# Altium footprint library a_Valider_LDG.PcbLib: 9 footprints
Each footprint in its own frame and in the unit in brackets; x right, y up, seen from the top. Pads: shape width x height; smd on the part's side, far side on the other; paste and mask are expansions set on the pad; w line width, h text height; cw(c..) or ccw(c..) is an arc to the next point about the centre after c.
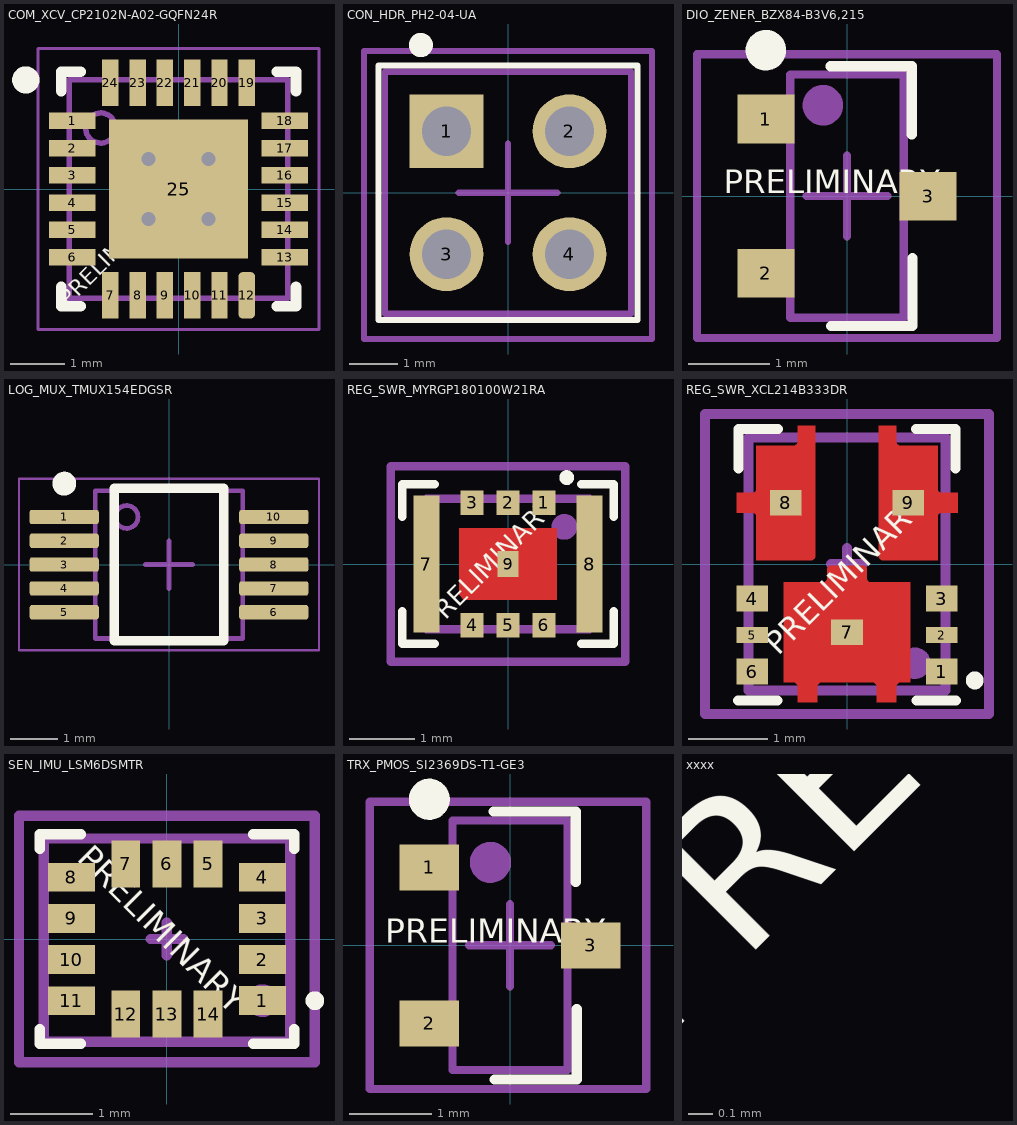
[diagram p0: the footprints below, top view; thin cyan lines are the x and y axes]

## COM_XCV_CP2102N-A02-GQFN24R [mm] "QFN, 24-Leads, Body 4.00x4.00mm, Pitch 0.50mm, Thermal Pad 2.55x2.55mm, IPC Medium Density"
height 0.8
pads (25):
  rect 0.85x0.3 smd paste-0.025 mask+0.07: 1(-1.95,1.25) 2(-1.95,0.75) 3(-1.95,0.25) 4(-1.95,-0.25) 5(-1.95,-0.75) 6(-1.95,-1.25) 13(1.95,-1.25) 14(1.95,-0.75) 15(1.95,-0.25) 16(1.95,0.25) 17(1.95,0.75) 18(1.95,1.25)
  rect 0.3x0.85 smd paste-0.025 mask+0.07: 7(-1.25,-1.95) 8(-0.75,-1.95) 9(-0.25,-1.95) 10(0.25,-1.95) 11(0.75,-1.95) 19(1.25,1.95) 20(0.75,1.95) 21(0.25,1.95) 22(-0.25,1.95) 23(-0.75,1.95) 24(-1.25,1.95)
  rrect50% 0.3x0.85 smd paste-0.025 mask+0.07: 12(1.25,-1.95)
  rect 2.55x2.55 smd paste-0.025 mask+0.07: 25(0,0)
via 0.55,-0.55 diameter 0.508 hole 0.254
via -0.55,-0.55 diameter 0.508 hole 0.254
via 0.55,0.55 diameter 0.508 hole 0.254
via -0.55,0.55 diameter 0.508 hole 0.254
Top Overlay:
  circle w0.25: c-2.8,2 r0.125
  lines w0.2: -2.15,-1.8 -2.15,-2.15 -1.8,-2.15 ; -2.15,1.8 -2.15,2.15 -1.8,2.15 ; 1.8,-2.15 2.15,-2.15 2.15,-1.8 ; 1.8,2.15 2.15,2.15 2.15,1.8
  text "PRELIMINARY & WIP" at -1.95,-2.238 h0.5
Top Assembly Drawing:
  circle w0.1: c-1.427,1.118 r0.276
  lines w0.1: -2,-2 -2,2 2,2 2,-2 -2,-2
Top Courtyard:
  lines w0.05: -2.575,-2.575 2.575,-2.575 2.575,2.575 -2.575,2.575 -2.575,-2.575
  lines w0.1: -0.5,0 0.5,0 ; 0,-0.5 0,0.5
3D body: height 0.8, standoff 0, extent -2,-2 2,2

## CON_HDR_PH2-04-UA [mil]
pads (4):
  rect 60x60 hole 40: 1(-50,50)
  round 60 hole 40: 2(50,50) 3(-50,-50) 4(50,-50)
Top Overlay:
  circle w9.84: c-70.87,120.08 r4.92
  lines w5: -105.31,-103.35 -105.31,103.35 105.31,103.35 105.31,-103.35 -105.31,-103.35
Top Assembly Drawing:
  lines w5: -100,-98.43 100,-98.43 100,98.43 -100,98.43 -100,-98.43
Top Courtyard:
  lines w5: -40,0 40,0 ; 0,-40 0,40 ; -117.13,-118.92 117.13,-118.92 117.13,115.16 -117.13,115.16 -117.13,-118.92
3D body "PH2-04-UA.STEP": height 285.43, standoff -169.29, extent -100,-98.42 100,98.43

## DIO_ZENER_BZX84-B3V6,215 [mm]
height 1.1
pads (3):
  rect 0.7x0.6 smd paste-0.025 mask+0.07: 1(-1,0.95) 2(-1,-0.95) 3(1,0)
Top Overlay:
  circle w0.25: c-1,1.8 r0.125
  lines w0.127: -0.2,1.6 0.8,1.6 0.8,0.764 ; -0.193,-1.602 0.807,-1.602 0.807,-0.765
  text "PRELIMINARY" at -1.521,-0.064 h0.5
Top Assembly Drawing:
  circle w0.25: c-0.297,1.12 r0.125
  lines w0.1: -0.7,-1.5 -0.7,1.5 0.7,1.5 0.7,-1.5 -0.7,-1.5
Top Courtyard:
  lines w0.1: -0.5,0 0.5,0 ; 0,-0.5 0,0.5 ; -1.85,-1.75 -1.85,1.75 1.85,1.75 1.85,-1.75 -1.85,-1.75
3D body "SOT95P230X110-3N.step": height 1.1, standoff 0, extent -1.3,-1.5 1.3,1.5

## LOG_MUX_TMUX154EDGSR [mm] "TSSOP, 10-Leads, Body 3.00x3.00mm, Pitch 0.50mm, IPC Medium Density"
height 1.1
pads (10):
  rrect30% 1.45x0.3 smd paste-0.025 mask+0.05: 1(-2.2,1) 2(-2.2,0.5) 3(-2.2,0) 4(-2.2,-0.5) 5(-2.2,-1) 6(2.2,-1) 7(2.2,-0.5) 8(2.2,0) 9(2.2,0.5) 10(2.2,1)
Top Overlay:
  circle w0.25: c-2.2,1.7 r0.125
  lines w0.2: -1.15,-1.6 1.15,-1.6 1.15,1.6 -1.15,1.6 -1.15,-1.6
Bottom Assembly Drawing:
  circle w0.1: c-0.89,1 r0.24
  lines w0.1: -1.55,-1.55 -1.55,1.55 1.55,1.55 1.55,-1.55 -1.55,-1.55
Top Courtyard:
  lines w0.05: -3.15,-1.8 3.15,-1.8 3.15,1.8 -3.15,1.8 -3.15,-1.8
  lines w0.1: -0.5,0 0.5,0 ; 0,-0.5 0,0.5
3D body "TSSOP50P490X110-10N.step": height 1.1, standoff 0, extent -2.45,-1.55 2.45,1.55

## REG_SWR_MYRGP180100W21RA [mm]
pads (9):
  rect 0.35x0.375 smd paste-1 mask+0.05: 1(0.55,0.937) 2(0,0.937) 3(-0.55,0.937) 4(-0.55,-0.937) 5(0,-0.937) 6(0.55,-0.937)
  rect 0.4x2.1 smd paste-1 mask+0.05: 7(-1.25,0) 8(1.25,0)
  rect 0.325x0.4 smd paste-1 mask-1: 9(0,0)
Top Layer:
  region: 0.75,0.55 -0.75,0.55 -0.75,-0.475 -0.675,-0.55 0.75,-0.55
Top Overlay:
  circle w0.127: c0.9,1.325 r0.05
  lines w0.127: -1.624,-0.723 -1.624,-1.223 -1.124,-1.223 ; -1.624,0.723 -1.624,1.223 -1.124,1.223 ; 1.124,-1.223 1.624,-1.223 1.624,-0.723 ; 1.124,1.223 1.624,1.223 1.624,0.723
  text "PRELIMINARY" at -1.054,-1.11 h0.5
Top Paste:
  region: -0.65,-0.45 -0.25,-0.45 -0.25,0.45 -0.65,0.45
  region: 0.65,0.45 0.25,0.45 0.25,-0.45 0.65,-0.45
  region: 0.4,-0.8 0.7,-0.8 0.7,-1.1 0.4,-1.1
  region: 0.15,-0.8 -0.15,-0.8 -0.15,-1.1 0.15,-1.1
  region: -0.4,-0.8 -0.7,-0.8 -0.7,-1.1 -0.4,-1.1
  region: -0.4,0.8 -0.7,0.8 -0.7,1.1 -0.4,1.1
  region: -0.15,0.8 0.15,0.8 0.15,1.1 -0.15,1.1
  region: 0.4,0.8 0.7,0.8 0.7,1.1 0.4,1.1
  region: -1.425,-1.025 -1.1,-1.025 -1.1,1.025 -1.425,1.025
  region: 1.425,1.025 1.1,1.025 1.1,-1.025 1.425,-1.025
Top Assembly Drawing:
  circle w0.254: c0.865,0.57 r0.071
  lines w0.127: -1.25,-1 1.25,-1 1.25,1 -1.25,1 -1.25,-1
Top Courtyard:
  lines w0.127: -0.2,0 0.2,0 ; 0,-0.2 0,0.2 ; -1.8,-1.5 -1.8,1.5 1.8,1.5 1.8,-1.5 -1.8,-1.5
3D body: height 1, standoff 0, extent -1.25,-1 1.25,1

## REG_SWR_XCL214B333DR [mm]
pads (9):
  rect 0.4x0.325 smd paste-0.05 mask+0.05: 1(1.2,-1.363) 3(1.2,-0.438) 4(-1.2,-0.438) 6(-1.2,-1.363)
  rect 0.4x0.2 smd paste-0.05 mask+0.05: 2(1.2,-0.9) 5(-1.2,-0.9)
  rect 0.4x0.325 smd paste-1 mask-1: 7(0,-0.865) 8(-0.775,0.775) 9(0.775,0.775)
Top Layer:
  region: 0.25,-0.07 0.25,-0.06 0.242,-0.042 0.228,-0.028 0.21,-0.02 0.2,-0.02 -0.2,-0.02 -0.21,-0.02 -0.228,-0.028 -0.242,-0.042 -0.25,-0.06 -0.25,-0.07 -0.25,-0.18 -0.251,-0.19 -0.258,-0.208 -0.272,-0.221 -0.29,-0.229 -0.3,-0.23 -0.8,-0.23 -0.8,-1.5 -0.675,-1.5 -0.665,-1.501 -0.647,-1.508 -0.633,-1.522 -0.626,-1.54 -0.625,-1.55 -0.625,-1.75 -0.375,-1.75 -0.375,-1.55 -0.374,-1.54 -0.366,-1.522 -0.353,-1.508 -0.335,-1.501 -0.325,-1.5 0.325,-1.5 0.335,-1.501 0.353,-1.508 0.367,-1.522 0.374,-1.54 0.375,-1.55 0.375,-1.75 0.625,-1.75 0.625,-1.55 0.626,-1.54 0.633,-1.522 0.647,-1.508 0.665,-1.501 0.675,-1.5 0.8,-1.5 0.8,-0.23 0.3,-0.23 0.29,-0.229 0.272,-0.221 0.259,-0.208 0.251,-0.19 0.25,-0.18
  region: -1.15,0.05 -0.45,0.05 -0.44,0.05 -0.421,0.057 -0.407,0.072 -0.4,0.09 -0.4,0.1 -0.4,1.75 -0.625,1.75 -0.625,1.55 -0.626,1.54 -0.633,1.522 -0.647,1.508 -0.665,1.501 -0.675,1.5 -1.15,1.5 -1.15,0.95 -1.151,0.94 -1.158,0.922 -1.172,0.908 -1.19,0.901 -1.2,0.9 -1.4,0.9 -1.4,0.65 -1.2,0.65 -1.19,0.649 -1.172,0.641 -1.158,0.628 -1.151,0.61 -1.15,0.6
  region: 1.15,0.05 0.45,0.05 0.44,0.05 0.421,0.057 0.407,0.072 0.4,0.09 0.4,0.1 0.4,1.75 0.625,1.75 0.625,1.55 0.626,1.54 0.633,1.522 0.647,1.508 0.665,1.501 0.675,1.5 1.15,1.5 1.15,0.95 1.151,0.94 1.158,0.922 1.172,0.908 1.19,0.901 1.2,0.9 1.4,0.9 1.4,0.65 1.2,0.65 1.19,0.649 1.172,0.641 1.158,0.628 1.151,0.61 1.15,0.6
Top Overlay:
  circle w0.127: c1.618,-1.475 r0.05
  lines w0.127: -1.378,-1.727 -0.878,-1.727 ; 0.872,1.712 1.372,1.712 1.372,1.212 ; 0.879,-1.727 1.379,-1.727 ; -1.372,1.712 -1.372,1.212 -1.372,1.712 ; -1.372,1.712 -0.872,1.712 -1.372,1.712
  text "PRELIMINARY" at -0.8,-1.239 h0.5
Top Paste:
  region: 1.35,-0.8 1.05,-0.8 1.05,-1 1.35,-1
  rectangle: -1.35,-1 -1.05,-0.8
  region: 0.474,0.675 0.464,0.675 0.446,0.683 0.432,0.697 0.424,0.715 0.424,0.725 0.424,1.7 0.6,1.7 0.6,1.45 0.601,1.441 0.608,1.423 0.622,1.409 0.639,1.401 0.649,1.4 0.65,1.4 1.05,1.4 1.05,0.925 1.051,0.916 1.058,0.898 1.072,0.884 1.089,0.876 1.099,0.875 1.1,0.875 1.35,0.875 1.35,0.675
  region: -0.475,0.675 -0.465,0.675 -0.446,0.683 -0.432,0.697 -0.425,0.715 -0.425,0.725 -0.425,1.7 -0.6,1.7 -0.6,1.45 -0.601,1.441 -0.608,1.423 -0.622,1.409 -0.64,1.401 -0.649,1.4 -0.65,1.4 -1.05,1.4 -1.05,0.925 -1.051,0.916 -1.058,0.898 -1.072,0.884 -1.09,0.876 -1.099,0.875 -1.1,0.875 -1.35,0.875 -1.35,0.675
  region: 0.7,-0.8 -0.7,-0.8 -0.7,-1.4 -0.65,-1.4 -0.641,-1.401 -0.622,-1.409 -0.609,-1.422 -0.601,-1.441 -0.6,-1.45 -0.6,-1.7 -0.4,-1.7 -0.4,-1.45 -0.399,-1.441 -0.392,-1.422 -0.378,-1.409 -0.36,-1.401 -0.35,-1.4 0.35,-1.4 0.359,-1.401 0.377,-1.409 0.391,-1.422 0.399,-1.441 0.4,-1.45 0.4,-1.7 0.6,-1.7 0.6,-1.45 0.601,-1.441 0.608,-1.422 0.622,-1.409 0.64,-1.401 0.65,-1.4 0.7,-1.4
Top Assembly Drawing:
  circle w0.254: c0.861,-1.257 r0.071
  lines w0.127: -1.25,-1.6 1.25,-1.6 1.25,1.6 -1.25,1.6 -1.25,-1.6
Top Courtyard:
  lines w0.127: -0.2,0 0.2,0 ; 0,-0.2 0,0.2 ; -1.8,-1.9 -1.8,1.9 1.8,1.9 1.8,-1.9 -1.8,-1.9
3D body: height 1, standoff 0, extent -1.25,-1.6 1.25,1.6

## SEN_IMU_LSM6DSMTR [mm]
pads (14):
  rect 0.575x0.35 smd paste-1 mask+0.05: 1(1.162,-0.75) 2(1.162,-0.25) 3(1.162,0.25) 8(-1.163,0.75) 9(-1.163,0.25) 10(-1.163,-0.25)
  rect 0.575x0.35 smd mask+0.05: 4(1.162,0.75) 11(-1.163,-0.75)
  rect 0.35x0.575 smd paste-1 mask+0.05: 5(0.5,0.913) 6(0,0.913) 7(-0.5,0.913) 12(-0.5,-0.913) 13(0,-0.913) 14(0.5,-0.913)
Top Overlay:
  circle w0.127: c1.8,-0.75 r0.05
  lines w0.127: -1.55,-1.1 -1.55,-1.275 -1.05,-1.275 ; -1.55,1.1 -1.55,1.275 -1.05,1.275 ; 1.05,-1.275 1.55,-1.275 1.55,-1.1 ; 1.05,1.275 1.55,1.275 1.55,1.1
  text "PRELIMINARY" at -1.175,0.9 h0.5
Top Assembly Drawing:
  circle w0.254: c1.162,-0.75 r0.071
  lines w0.127: -1.5,-1.25 1.5,-1.25 1.5,1.223 -1.5,1.223 -1.5,-1.25
Top Courtyard:
  lines w0.127: -0.2,0 0.2,0 ; 0,-0.2 0,0.2 ; -1.8,-1.5 1.8,-1.5 1.8,1.5 -1.8,1.5 -1.8,-1.5
3D body "LSM6DSMTR--3DModel-STEP-56544.STEP": height 0.86, standoff 0, extent -1.5,-1.25 1.5,1.25

## TRX_PMOS_SI2369DS-T1-GE3 [mm]
height 1.12
pads (3):
  rect 0.724x0.559 smd paste-0.025 mask+0.07: 1(-0.984,0.95) 2(-0.984,-0.95) 3(0.984,0)
Top Overlay:
  circle w0.25: c-0.984,1.78 r0.125
  lines w0.127: -0.2,1.63 0.8,1.63 0.8,0.773 ; -0.188,-1.635 0.812,-1.635 0.812,-0.778
  text "PRELIMINARY" at -1.521,-0.064 h0.5
Top Assembly Drawing:
  circle w0.25: c-0.24,1.011 r0.125
  lines w0.1: -0.7,-1.52 -0.7,1.52 0.7,1.52 0.7,-1.52 -0.7,-1.52
Top Courtyard:
  lines w0.1: -0.5,0 0.5,0 ; 0,-0.5 0,0.5 ; -1.709,-1.75 -1.709,1.75 1.658,1.75 1.658,-1.75 -1.709,-1.75
3D body "SOT95P237X112-3N.step": height 1.12, standoff 0, extent -1.32,-1.52 1.32,1.52

## xxxx [mm]
Top Overlay:
  text "PRELIMINARY" at -2.464,-2.997 h1.25